# Altium footprint library NekokeCore自用.PcbLib: 4 footprints
Each footprint in its own frame and in the unit in brackets; x right, y up, seen from the top. Pads: shape width x height; smd on the part's side, far side on the other; paste and mask are expansions set on the pad; w line width, h text height; cw(c..) or ccw(c..) is an arc to the next point about the centre after c.
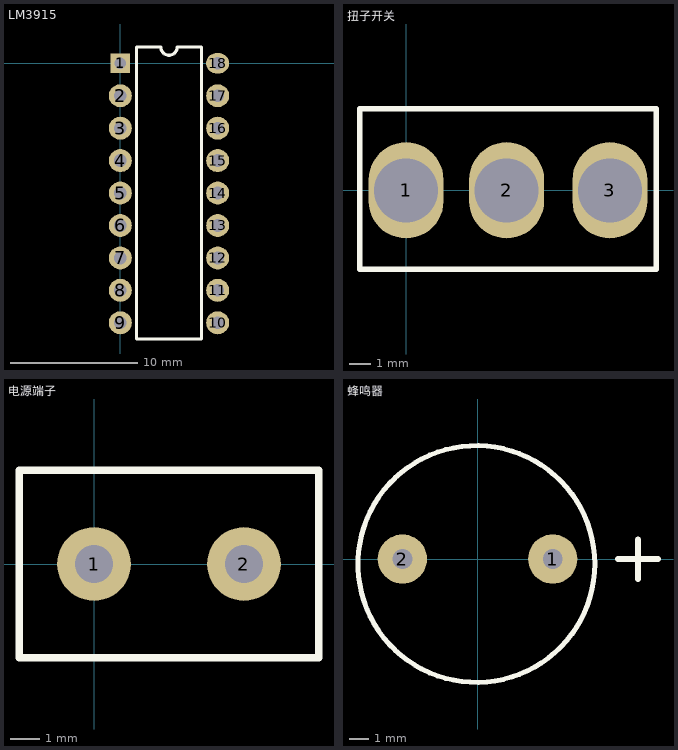
[diagram p0: the footprints below, top view; thin cyan lines are the x and y axes]

## LM3915 [mm] "一款可以控制10个LED灯的电平IC"
pads (18):
  rect 1.524x1.524 hole 0.889: 1(0,0)
  round 1.8 hole 1: 2(0,-2.54) 3(0,-5.08) 4(0,-7.62) 5(0,-10.16) 6(0,-12.7) 7(0,-15.24) 8(0,-17.78) 9(0,-20.32) 10(7.62,-20.32) 11(7.62,-17.78) 12(7.62,-15.24) 13(7.62,-12.7) 14(7.62,-10.16) 15(7.62,-7.62) 16(7.62,-5.08) 17(7.62,-2.54)
  oval 1.8x1.6 hole 1: 18(7.62,0)
Top Overlay:
  lines w0.254: 1.27,-21.59 1.27,1.27 3.175,1.27 ccw(c3.81,1.27) 4.445,1.27 6.35,1.27 6.35,-21.59 1.27,-21.59

## 扭子开关 [mm]
height 4.64
pads (3):
  oval 3.5x4.5 hole 3: 1(0,0) 2(4.699,0) 3(9.525,0)
Top Overlay:
  lines w0.254: -2.159,-3.683 11.684,-3.683 11.684,3.81 -2.159,3.81 -2.159,-3.683

## 电源端子 [mm]
height 4.64
pads (2):
  round 2.5 hole 1.3: 1(0,0) 2(5.08,0)
Top Overlay:
  lines w0.254: -2.54,-3.175 7.62,-3.175 7.62,3.175 -2.54,3.175 -2.54,-3.175

## 蜂鸣器 [mm]
pads (2):
  round 2.5 hole 1: 1(3.81,0) 2(-3.81,0)
Top Overlay:
  circle w0.254: c-0.06,-0.25 r6
  lines w0.305: 7.112,0 9.144,0 ; 8.128,-1 8.128,1